# Altium footprint library Res_Vishay_CRCW08050000Z0EA_eec_0.PcbLib: 1 footprints
Each footprint in its own frame and in the unit in brackets; x right, y up, seen from the top. Pads: shape width x height; smd on the part's side, far side on the other; paste and mask are expansions set on the pad; w line width, h text height; cw(c..) or ccw(c..) is an arc to the next point about the centre after c.
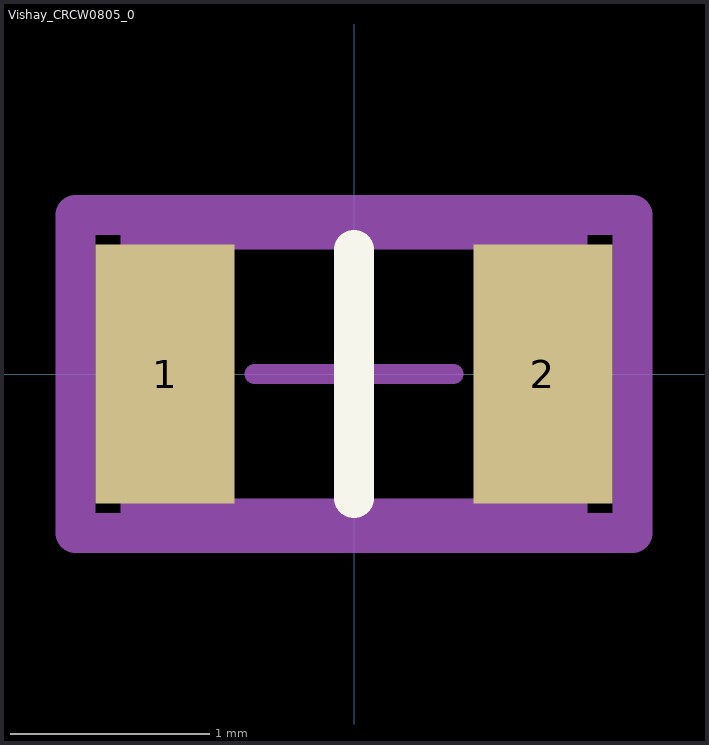
[diagram p0: the footprint, top view; thin cyan lines are the x and y axes]

## Vishay_CRCW0805_0 [mm]
pads (2):
  rect 0.7x1.3 smd paste+0 mask+0: 1(-0.95,0) 2(0.95,0)
Top Overlay:
  lines w0.2: 0,-0.625 0,0.625
Mechanical 10:
  lines w0.2: -1.4,-0.8 1.4,-0.8 1.4,0.8 -1.4,0.8 -1.4,-0.8
  text ".Designator" at 0,0 h1
Mechanical 12:
  lines w0.15: -1.1,-0.7 1.1,-0.7 1.1,0.7 -1.1,0.7 -1.1,-0.7
Mechanical 15:
  lines w0.1: -0.5,0 0.5,0 -0.5,0 ; 0,-0.5 0,0.5 0,-0.5
  lines w0.2: -1.4,-0.8 1.4,-0.8 1.4,0.8 -1.4,0.8 -1.4,-0.8
3D body "Res_Vishay_CRCW08050000Z0EA_eec.STEP": height 0.25, standoff 0, extent -1.4,-0.8 1.4,0.8